# Altium footprint library Inductor.PcbLib: 3 footprints
Each footprint in its own frame and in the unit in brackets; x right, y up, seen from the top. Pads: shape width x height; smd on the part's side, far side on the other; paste and mask are expansions set on the pad; w line width, h text height; cw(c..) or ccw(c..) is an arc to the next point about the centre after c.
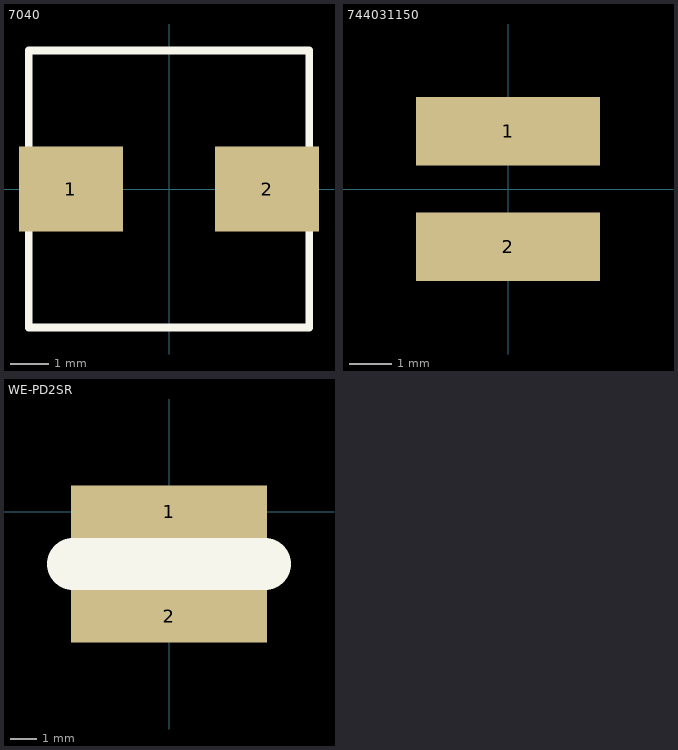
[diagram p0: the footprints below, top view; thin cyan lines are the x and y axes]

## 7040 [mm]
pads (2):
  rect 2.7x2.2 smd: 1(-2.55,0) 2(2.55,0)
Top Overlay:
  lines w0.2: -3.65,-3.6 -3.65,0 -3.65,3.6 3.65,3.6 3.65,-3.6 -3.65,-3.6

## 744031150 [mm] "Fixed Inductors WE-TPC 3816 15uH .62A .255Ohm"
pads (2):
  rect 4.3x1.6 smd: 1(-0.002,1.35) 2(-0.002,-1.35)
3D body "744031150.STEP": height 1.8, standoff 0, extent -2.05,-2.05 2.05,2.05

## WE-PD2SR [mm] "WE-PD2SR Shielded Power Inductor"
pads (2):
  rect 7.5x2 smd: 1(0,0) 2(0,-4)
Top Overlay:
  lines w2: -3.683,-2 3.683,-2
3D body: height 5, standoff 0, extent -4.05,-6.081 4.05,2.017